# Altium schematic symbol library BeagleCape.SCHLIB: 28 symbols
Pins are listed as number, name and electrical type; pins without a type are passive.

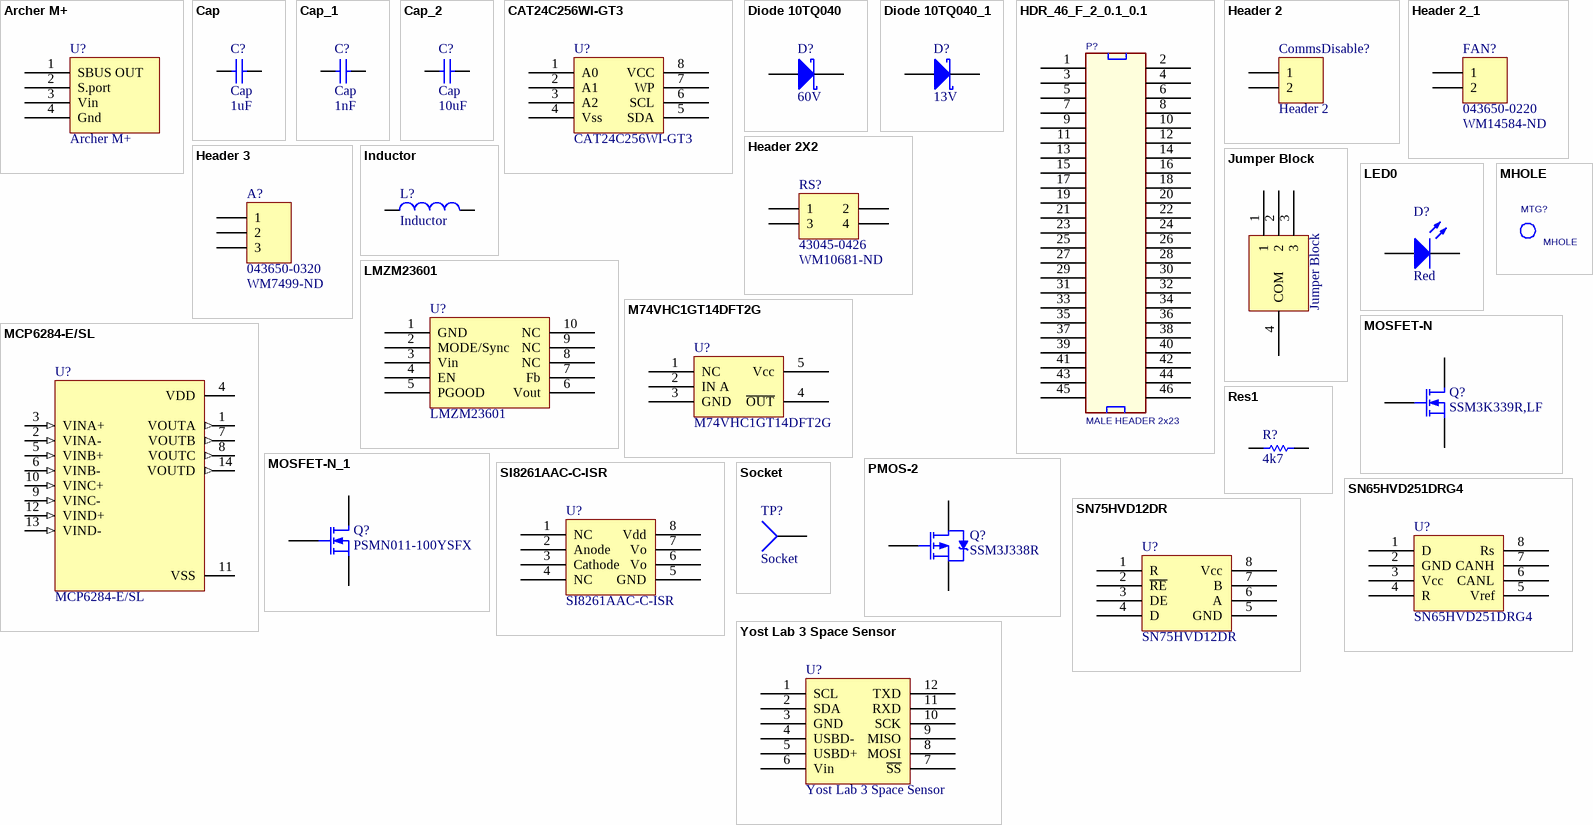
[diagram p0: symbols Archer M+ to Yost Lab 3 Space Sensor]

## Archer M+
designator U?
footprint Archer M+
pins: 1 SBUS OUT, 2 S.port, 3 Vin, 4 Gnd

## Cap
designator C?  value 1uF
Capacitor; Manufacturer Part Number: CL31B105KCHNNNE; Vendor Part Number: 1276-1838-1-ND
footprint RESC3116X65N
simulation model CAP (Capacitor)
signal-integrity model Cap
pins: 1, 2

## Cap_1
designator C?, comment Cap  value 1nF
Capacitor; Manufacturer Part Number: GRM155R72A102KA01D; Vendor Part Number: 490-6366-1-ND
footprint 0402 (Chip Capacitor, Body 1.0x0.5mm, IPC High Density)
simulation model CAP (Capacitor)
signal-integrity model Cap
pins: 1, 2

## Cap_2
designator C?, comment Cap  value 10uF
Capacitor; Manufacturer Part Number: CL31B105KCHNNNE; Vendor Part Number: 1276-1838-1-ND
footprint CAPC3216X180N
simulation model CAP (Capacitor)
signal-integrity model Cap
pins: 1, 2

## CAT24C256WI-GT3
designator U?
Vendor Part Number: CAT24C256WI-GT3OSCT-ND; Vendor: Digikey; Manufacturer Part Number: CAT24C256WI-GT3
footprint SOIC127P599X175-8N
pins: 1 A0, 2 A1, 3 A2, 4 Vss, 5 SDA, 6 SCL, 7 WP, 8 VCC

## Diode 10TQ040
designator D?, comment 60V
TVS; Manufacturer Part Number: SMBJ60A; Vendor Part Number: SMBJ60ALFCT-ND
footprint DIO_ES1J
simulation model 10TQ040 (DIODE)
pins: 1 K, 3 A

## Diode 10TQ040_1
designator D?, comment 13V
TVS; Manufacturer Part Number: D12V0H1U2LP1610-7; Vendor Part Number: D12V0H1U2LP1610-7DIDKR-ND
footprint THRMC0603X33N
simulation model 10TQ040 (DIODE)
pins: 1 K, 3 A

## HDR_46_F_2_0.1_0.1
designator P?, comment MALE HEADER 2x23
CONN HEADER FMAL 46PS.1" DL GOLD; Manufacturer: Sullins Connector Solutions; Number of Positions: 46; Number of Positions Loaded: All; Pitch: 0.100" (2.54mm); Supplier 1: Digi-Key; Supplier Part Number 1: S7126-ND; RoHS: RoHS Compliant; Category: Connectors, Interconnects; Stock 1: 750; Pricing 1: 1=2.75, 10=2.325, 25=2.2196, 50=2.0084, 100=1.7969, 250=1.58552, 500=1.4798, 1000=1.3741, 2500=1.32125 (USD); Connector Type: Header; Contact Type: Female Socket; Number of Rows: 2; Row Spacing: 0.100" (2.54mm); Mounting Type: Through Hole; Termination: Solder; Fastening Type: -; Features: -; Contact Finish: Gold; Contact Finish Thickness: Flash; Color: Black; Packaging: Bulk; ComponentLink1URL: http://www.sullinscorp.com/drawings/78_P(N)PxCxxxLFBN-RC,_10492-G.pdf; ComponentLink1Description: http://www.sullinscorp.com/drawings/78_P(N)PxCxxxLFBN-RC,_10492-G.pdf
footprint 95278-101B46LF
pins: 1, 2 26, 3 2, 4 27, 5 3, 6 28, 7 4, 8 29, 9 5, 10 30, 11 6, 12 31, 13 7, 14 32, 15 8, 16 33, 17 9, 18 34, 19 10, 20 35, 21 11, 22 36, 23 12, 24 37, 25 13, 26 38, 27 14, 28 39, 29 15, 30 40, 31 16, 32 41, 33 17, 34 42, 35 18, 36 43, 37 19, 38 44, 39 20, 40 45, 41 21, 42 46, 43 22, 44 47, 45 23, 46 48

## Header 2
designator CommsDisable?
Header, 2-Pin; LatestRevisionDate: 17-Jul-2002; LatestRevisionNote: Re-released for DXP Platform.; Publisher: Altium Limited
footprint HDR1X2 (Connector; Header; 2 Position)
signal-integrity model Connector
pins: 1, 2

## Header 2_1
designator FAN?, comment 043650-0220  Vendor PN: WM14584-ND
Header, 2-Pin; LatestRevisionDate: 17-Jul-2002; LatestRevisionNote: Re-released for DXP Platform.; Publisher: Altium Limited
footprint 43650-0220
signal-integrity model Connector
pins: 1, 2

## Header 2X2
designator RS?, comment 43045-0426  Vendor PN: WM10681-ND
Header, 2-Pin, Dual row; LatestRevisionDate: 17-Jul-2002; LatestRevisionNote: Re-released for DXP Platform.; Publisher: Altium Limited
footprint 43045-0426
signal-integrity model Connector
pins: 1, 2, 3, 4

## Header 3
designator A?, comment 043650-0320  Vendor PN: WM7499-ND
Header, 3-Pin; LatestRevisionDate: 17-Jul-2002; LatestRevisionNote: Re-released for DXP Platform.; Publisher: Altium Limited
footprint 43650-0320
signal-integrity model Connector
pins: 1, 2, 3

## Inductor
designator L?
Manufacturer Part Number: MPZ1005S300CT000; Vendor Part Number: 445-2979-1-ND
footprint 0402-A (Chip Inductor, Body 1.0x0.5mm, IPC High Density)
footprint INDC1608L (Chip Inductor, Body 1.6x0.8mm, IPC High Density)
footprint 2029 (Chip Inductor, Body 2.0x1.2mm, IPC High Density)
footprint 0603 (Chip Inductor, Body 0.6x0.3mm, IPC High Density)
footprint INDC3216 (Chip Inductor, Body 3.2x1.6mm, IPC High Density)
footprint INDC4532 (Chip Inductor, Body 4.5x3.2mm, IPC High Density)
simulation model INDUCTOR (Inductor)
signal-integrity model Inductor
pins: 1, 2

## Jumper Block
designator J?
footprint Jumper Block
pins: 1, 2, 3, 4 COM

## LED0
designator D?  Color: Red  (hidden comment: LED0)
Typical INFRARED GaAs LED; Vendor Part Number: 732-11991-1-ND; Manufacturer Part Number: 150040RS73240; Vf: 2V; I: 20mA
footprint THRMC0603X33N
simulation model LED0 (Diode)
pins: 1 A, 3 K

## LMZM23601
designator U?
Manufacturer Part Number: LMZM23601SILT; Vendor Part Number: 296-49460-1-ND
footprint MODULE_LMZM23600V3SILT
pins: 1 GND, 2 MODE/Sync, 3 Vin, 4 EN, 5 PGOOD, 6 Vout, 7 Fb, 8 NC, 9 NC, 10 NC

## M74VHC1GT14DFT2G
designator U?
Vendor Part Number: M74VHC1GT14DFT2GOSCT-ND; Manufacturer Part Number: M74VHC1GT14DFT2G
footprint SOT65P210X110-5N
pins: 1 NC, 2 IN A, 3 GND, 4 ~{OUT}, 5 Vcc

## MCP6284-E/SL
designator U?
General Purpose Amplifier 4 Circuit Rail-to-Rail 14-SOIC; Vendor Part Number: MCP6284-E/SL-ND; MF: Microchip; Value: *; SnapEDA_Link: https://www.snapeda.com/parts/MCP6284-E/SL/Microchip/view-part/282490/?ref=snap; MP: MCP6284-E/SL; Availability: Warning; Mouser-Purchase-URL: https://snapeda.com/shop?store=Mouser&id=282490; Price: None; DigiKey-Purchase-URL: https://snapeda.com/shop?store=DigiKey&id=282490; Package: SOIC-14 Microchip; Manufacturer Part Number: MCP6284-E/SL
footprint SOIC127P600X175-14N
pins: 1 VOUTA (out), 2 VINA- (in), 3 VINA+ (in), 4 VDD (power), 5 VINB+ (in), 6 VINB- (in), 7 VOUTB (out), 8 VOUTC (out), 9 VINC- (in), 10 VINC+ (in), 11 VSS (power), 12 VIND+ (in), 13 VIND- (in), 14 VOUTD (out)

## MHOLE
designator MTG?  (no BOM)
footprint MTGH200C125D_PL
footprint MTGH200C125D_PL
pins: 1 TP

## MOSFET-N
designator Q?, comment SSM3K339R,LF
N-Channel MOSFET; Vendor Part Number: SSM3K339RLFCT-ND; Manufacturer Part Number: SSM3K339R,LF
footprint SOT95P237X112-3N
simulation model NMOS (MOSFET-N)
pins: 1 G, 2 S, 3 D

## MOSFET-N_1
designator Q?, comment PSMN011-100YSFX
N-Channel MOSFET; Vendor Part Number: 1727-8475-1-ND; Published: 8-Jun-2000; LatestRevisionDate: 17-Jul-2002; LatestRevisionNote: Re-released for DXP Platform.; PackageVersion: 1995/1996; PackageReference: E3; Publisher: Altium Limited; PackageDescription: TO, Flat Index; 3 In-Line, Axial Leads; Body Dia. 4.6mm; Lead Dia. 0.5 mm (max); Manufacturer Part Number: PSMN011-100YSFX
footprint DPAK127P_600X120-5N
simulation model NMOS (MOSFET-N)
pins: 1 D, 2 G, 3 S

## PMOS-2
designator Q?, comment SSM3J338R
P-Channel Power MOSFET; Vendor Part Number: SSM3J338RLFCT-ND; Manufacturer Part Number: SSM3J338R
footprint SOT95P237X112-3N
simulation model IRF9510 (Spice Subcircuit)
pins: 1 G, 2 S, 3 D

## Res1
designator R?  value 4k7  (hidden comment: Res1)
Resistor; Manufacturer Part Number: RC0402FR-074K7L; Vendor Part Number: 311-4.7KLRCT-ND; Tolerance: 1%
footprint 0402 (Chip Capacitor, Body 1.0x0.5mm, IPC High Density)
simulation model RESISTOR (Resistor)
signal-integrity model Res
pins: 1, 2

## SI8261AAC-C-ISR
designator U?
Vendor Part Number: 336-4490-1-ND; Vendor: Digikey; Manufacturer Part Number: SI8261AAC-C-ISR
footprint SOIC127P599X175-8N
pins: 1 NC, 2 Anode, 3 Cathode, 4 NC, 5 GND, 6 Vo, 7 Vo, 8 Vdd

## SN65HVD251DRG4
designator U?
Vendor Part Number: 296-21805-1-ND; Manufacturer Part Number: SN65HVD251DRG4
footprint SOIC127P599X175-8N
pins: 1 D, 2 GND, 3 Vcc, 4 R, 5 Vref, 6 CANL, 7 CANH, 8 Rs

## SN75HVD12DR
designator U?
Vendor Part Number: 296-26658-1-ND; Vendor: Digikey; Manufacturer Part Number: SN75HVD12DR
footprint SOIC127P599X175-8N
pins: 1 R, 2 ~{RE}, 3 DE, 4 D, 5 GND, 6 A, 7 B, 8 Vcc

## Socket
designator TP?
Manufacturer Part Number: 5006; Vendor Part Number: 36-5006-ND; LatestRevisionDate: 17-Jul-2002; LatestRevisionNote: Re-released for DXP Platform.; Publisher: Altium Limited
footprint 5006
signal-integrity model Connector
pins: 1

## Yost Lab 3 Space Sensor
designator U?
Manufacturer Part Number: Yost Lab 3 Space Sensor
footprint Yost 3 Space Sensor
pins: 1 SCL, 2 SDA, 3 GND, 4 USBD-, 5 USBD+, 6 Vin, 7 ~{SS}, 8 MOSI, 9 MISO, 10 SCK, 11 RXD, 12 TXD